# Altium schematic symbol library STM32F103VCH7.SchLib: 1 symbol
Pins are listed as number, name and electrical type; pins without a type are passive.

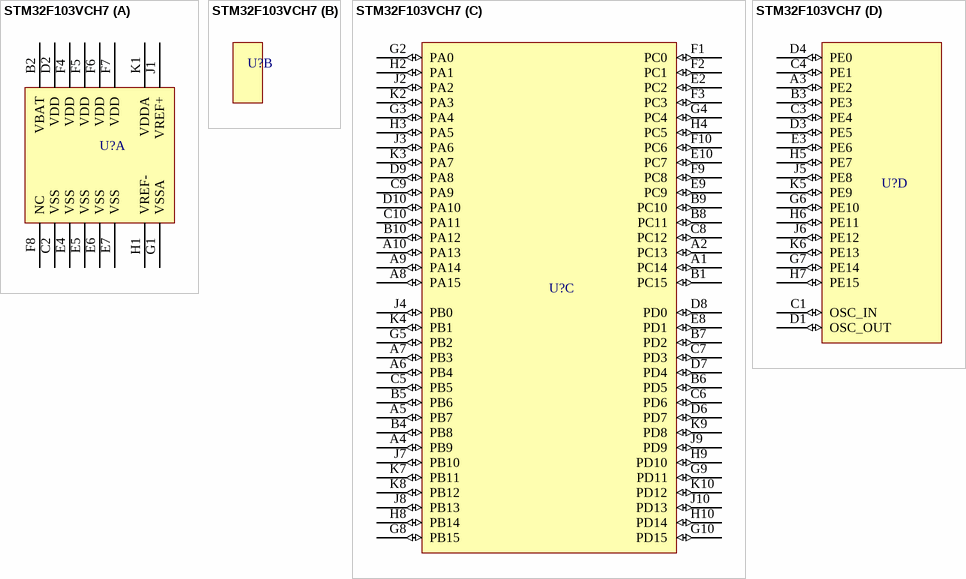
[diagram p0: symbol STM32F103VCH7]

## STM32F103VCH7
designator U?  (value not drawn)
Mainstream Performance line, Arm Cortex-M3 MCU with 256 Kbytes of Flash memory, 72 MHz CPU, motor control, USB and CAN
part A pins: B2 VBAT (power), C2 VSS (power), D2 VDD (power), E4 VSS (power), E5 VSS (power), E6 VSS (power), E7 VSS (power), F4 VDD (power), F5 VDD (power), F6 VDD (power), F7 VDD (power), F8 NC, G1 VSSA (power), H1 VREF- (power), J1 VREF+ (power), K1 VDDA (power)
part C pins: A1 PC14 (io), A2 PC13 (io), A4 PB9 (io), A5 PB7 (io), A6 PB4 (io), A7 PB3 (io), A8 PA15 (io), A9 PA14 (io), A10 PA13 (io), B1 PC15 (io), B4 PB8 (io), B5 PB6 (io), B6 PD5 (io), B7 PD2 (io), B8 PC11 (io), B9 PC10 (io), B10 PA12 (io), C5 PB5 (io), C6 PD6 (io), C7 PD3 (io), C8 PC12 (io), C9 PA9 (io), C10 PA11 (io), D6 PD7 (io), D7 PD4 (io), D8 PD0 (io), D9 PA8 (io), D10 PA10 (io), E2 PC2 (io), E8 PD1 (io), E9 PC9 (io), E10 PC7 (io), F1 PC0 (io), F2 PC1 (io), F3 PC3 (io), F9 PC8 (io), F10 PC6 (io), G2 PA0 (io), G3 PA4 (io), G4 PC4 (io), G5 PB2 (io), G8 PB15 (io), G9 PD11 (io), G10 PD15 (io), H2 PA1 (io), H3 PA5 (io), H4 PC5 (io), H8 PB14 (io), H9 PD10 (io), H10 PD14 (io), J2 PA2 (io), J3 PA6 (io), J4 PB0 (io), J7 PB10 (io), J8 PB13 (io), J9 PD9 (io), J10 PD13 (io), K2 PA3 (io), K3 PA7 (io), K4 PB1 (io), K7 PB11 (io), K8 PB12 (io), K9 PD8 (io), K10 PD12 (io)
part D pins: A3 PE2 (io), B3 PE3 (io), C1 OSC_IN (io), C3 PE4 (io), C4 PE1 (io), D1 OSC_OUT (io), D3 PE5 (io), D4 PE0 (io), E3 PE6 (io), G6 PE10 (io), G7 PE14 (io), H5 PE7 (io), H6 PE11 (io), H7 PE15 (io), J5 PE8 (io), J6 PE12 (io), K5 PE9 (io), K6 PE13 (io)